# Altium footprint library PcbLib1.PcbLib: 2 footprints
Each footprint in its own frame and in the unit in brackets; x right, y up, seen from the top. Pads: shape width x height; smd on the part's side, far side on the other; paste and mask are expansions set on the pad; w line width, h text height; cw(c..) or ccw(c..) is an arc to the next point about the centre after c.
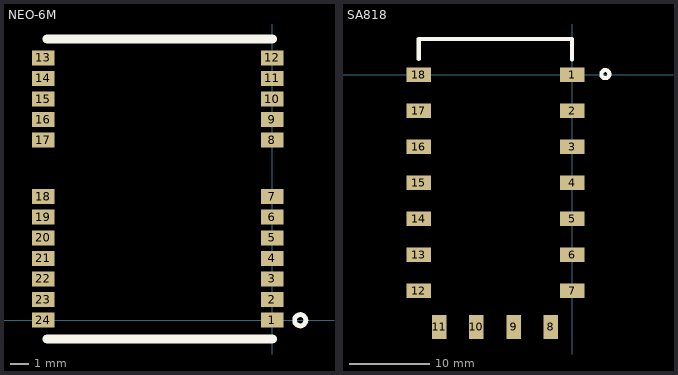
[diagram p0: the footprints below, top view; thin cyan lines are the x and y axes]

## NEO-6M [mm] "GPS Module"
pads (24):
  rect 1.2x0.8 smd: 1(0,0) 2(0,1.1) 3(0,2.2) 4(0,3.3) 5(0,4.4) 6(0,5.5) 7(0,6.6) 8(0,9.6) 9(0,10.7) 10(0,11.8) 11(0,12.9) 12(0,14) 13(-12.2,14) 14(-12.2,12.9) 15(-12.2,11.8) 16(-12.2,10.7) 17(-12.2,9.6) 18(-12.2,6.6) 19(-12.2,5.5) 20(-12.2,4.4) 21(-12.2,3.3) 22(-12.2,2.2) 23(-12.2,1.1) 24(-12.2,0)
Top Overlay:
  circle w0.254: c1.5,0 r0.3
  lines w0.5: -12,-1 0,-1 ; -12,15 0,15
3D body: height 2.4, standoff 0.8, extent -11.75,-0.5 -0.5,14.5
3D body: height 0.8, standoff 0, extent -12.25,-1 0,15

## SA818 [mm]
pads (18):
  rect 3x1.8 smd: 1(0,0) 2(0,-4.45) 3(0,-8.9) 4(0,-13.35) 5(0,-17.8) 6(0,-22.25) 7(0,-26.7) 12(-19,-26.7) 13(-19,-22.25) 14(-19,-17.8) 15(-19,-13.35) 16(-19,-8.9) 17(-19,-4.45) 18(-19,0)
  rect 1.8x3 smd: 8(-2.66,-31.2) 9(-7.26,-31.2) 10(-11.86,-31.2) 11(-16.46,-31.2)
Top Overlay:
  circle w0.5: c4.1,0.1 r0.5
  lines w0.5: -19,2 -19,4.45 0,4.45 0,1.9
3D body: height 3.2, standoff 0.8, extent -18.4,-29.2 -0.6,3.7
3D body: height 0.8, standoff 0, extent -19,-31.2 0,4.4